# Altium schematic symbol library UserSchlib.SchLib: 12 symbols
Pins are listed as number, name and electrical type; pins without a type are passive.

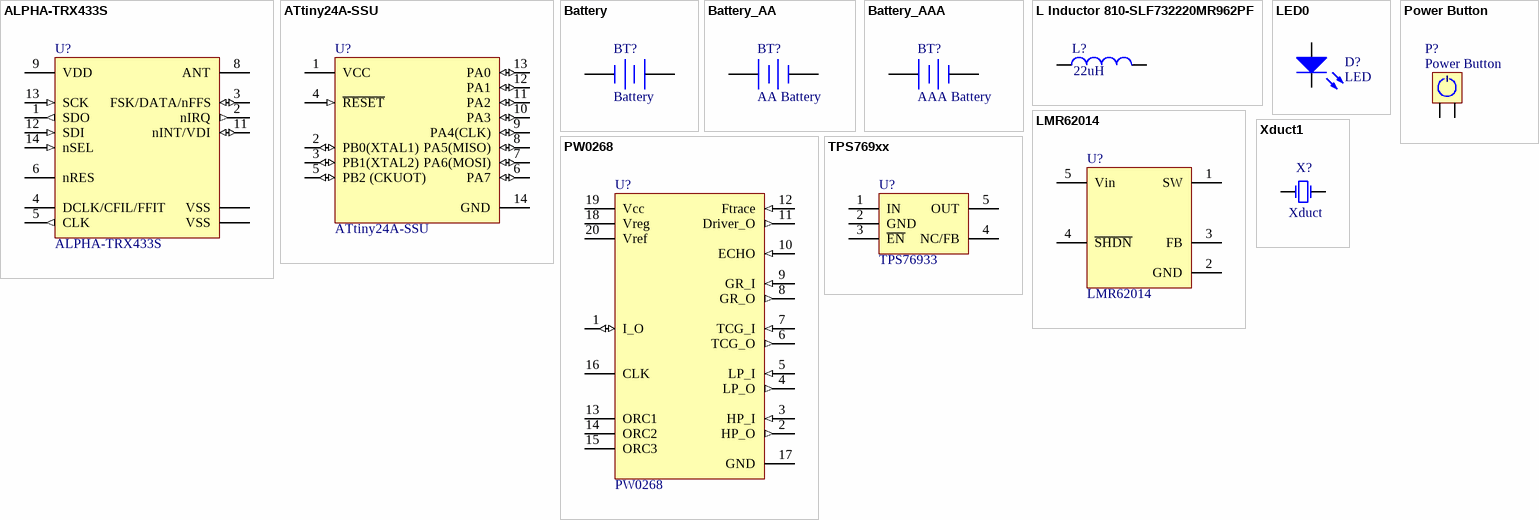
[diagram p0: symbols ALPHA-TRX433S to Xduct1]

## ALPHA-TRX433S
designator U?
RF SOLUTIONS  ALPHA-TRX433S  RF MODULE, TRANSCEIVER, FSK, 433MHZ; Manufacturer Part Number: ALPHA-TRX433S; Manufacturer: RF SOLUTIONS; Supplier 1: Farnell; Supplier Part Number 1: 1718689; Data Sheet: http://www.farnell.com/datasheets/1718776.pdf
footprint ALPHA-TRX (ALPHA RF MODULES)
pins: 1 SDO (out), 2 nIRQ (out), 3 FSK/DATA/nFFS (io), 4 DCLK/CFIL/FFIT, 5 CLK (out), 6 nRES, 7 VSS (power), 8 ANT, 9 VDD (power), 10 VSS (power), 11 nINT/VDI (io), 12 SDI (in), 13 SCK (in), 14 nSEL (in)

## ATtiny24A-SSU
designator U?
Manufacturer: Atmel; Manufacturer Part Number: ATtiny24A-SSU; Supplier Part Number 1: 1699395; Supplier 1: Farnell; Data Sheet: http://www.farnell.com/datasheets/332546.pdf
footprint SOIC14T_L (14-Pin Small Outline Integrated Circuit 1.27 mm Pitch, IPC High Density)
pins: 1 VCC (power), 2 PB0(XTAL1) (io), 3 PB1(XTAL2) (io), 4 ~{RESET} (in), 5 PB2 (CKUOT) (io), 6 PA7 (io), 7 PA6(MOSI) (io), 8 PA5(MISO) (io), 9 PA4(CLK) (io), 10 PA3 (io), 11 PA2 (io), 12 PA1 (io), 13 PA0 (io), 14 GND (power)

## Battery
designator BT?
Multicell Battery
footprint AAA Battery Holder
pins: 1 +, 2 -

## Battery_AA
designator BT?, comment AA Battery
Battery AA; Manufacturer: KEYSTONE; Manufacturer Part Number: 53; Supplier Part Number 1: 2293266; Data Sheet: http://www.farnell.com/datasheets/1703982.pdf; Supplier 1: Farnell
footprint BATTERY_AA_CLIP (KEYSTONE 53 BATTERY CLIP, A/AA, THT)
pins: 1 +, 2 -

## Battery_AAA
designator BT?, comment AAA Battery
Battery AAA; Manufacturer: KEYSTONE; Manufacturer Part Number: 55; Supplier Part Number 1: 1702644; Data Sheet: http://www.farnell.com/datasheets/1703982.pdf; Supplier 1: Farnell
footprint Keystone 55 AAA CLIP (KEYSTONE 55 BATTERY CLIP AAA)
pins: 1 +, 2 -

## L Inductor 810-SLF732220MR962PF
designator L?, comment 22uH
Inductor; Manufacturer Part Number: 810-SLF732220MR962PF; Manufacturer: TDK; Data Sheet: http://www.mouser.com/catalog/specsheets/tdk_e531_slf.pdf; Supplier Part Number 1: 810-SLF732220MR962PF; Supplier 1: Mouser
footprint INDM7070x32N (Inductor 7x7x3.2mm)
pins: 1, 2

## LED0
designator D?, comment LED
Typical INFRARED GaAs LED; Published: 8-Jun-2000; LatestRevisionDate: 08-Jul-2005; LatestRevisionNote: Mech Layer 1 removed.; PackageReference: LED-0; Publisher: Altium Limited
footprint LED 3mm DIP
pins: 1 A, 2 K

## LMR62014
designator U?
2064695; Manufacturer Part Number: LMR62014XMFE; Manufacturer: TEXAS INSTRUMENTS; Supplier Part Number 1: 2064695; Supplier 1: Farnell; Data Sheet: http://www.ti.com/lit/ds/symlink/lmr62014.pdf
footprint SOT23-5AM (SOT23, 5-Leads, Body 2.9x1.7mm, Pitch 0.95mm, Lead Span 2.8mm, IPC Low Density)
pins: 1 SW, 2 GND, 3 FB, 4 ~{SHDN}, 5 Vin

## Power Button
designator P?
Header, 2-Pin, Right Angle; LatestRevisionDate: 17-Jul-2002; LatestRevisionNote: Re-released for DXP Platform.; Publisher: Altium Limited
footprint HDR1X2 (Connector; Header; 2 Position)
pins: 1, 2

## PW0268
designator U?
Manufacturer: PROWAVE; Manufacturer Part Number: PW0268; Supplier Part Number 1: 1007371; Supplier 1: Farnell; Data Sheet: http://www.farnell.com/datasheets/1714673.pdf
footprint QSSOP20_0.635/4.0X8.7
pins: 1 I_O (io), 2 HP_O (out), 3 HP_I (in), 4 LP_O (out), 5 LP_I (in), 6 TCG_O (out), 7 TCG_I (in), 8 GR_O (out), 9 GR_I (in), 10 ECHO (in), 11 Driver_O (out), 12 Ftrace (in), 13 ORC1, 14 ORC2, 15 ORC3, 16 CLK, 17 GND (power), 18 Vreg (power), 19 Vcc (power), 20 Vref (power)

## TPS769xx
designator U?, comment TPS76933
ULTRALOW-POWER 100-mA LOW-DROPOUT LINEAR REGULATORS; Manufacturer Part Number: TPS76933DBVT; Manufacturer: TEXAS INSTRUMENTS; Supplier Part Number 1: 8461538; Supplier 1: Farnell; Data Sheet: http://www.farnell.com/datasheets/1882401.pdf
footprint SOT23-5AM (SOT23, 5-Leads, Body 2.9x1.7mm, Pitch 0.95mm, Lead Span 2.8mm, IPC Low Density)
pins: 1 IN (power), 2 GND (power), 3 ~{EN} (power), 4 NC/FB (power), 5 OUT (power)

## Xduct1
designator X?, comment Xduct
Transducer
footprint Xducts1 (400ST/R120)
pins: 1, 2